# Altium schematic symbol library 隔离变压器驱动.SchLib: 1 symbol
Pins are listed as number, name and electrical type; pins without a type are passive.

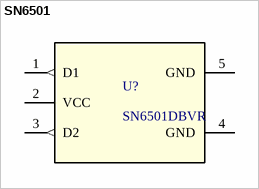
[diagram p0: symbol SN6501]

## SN6501
designator U?, comment SN6501DBVR
SN6501 用于隔离电源的变压器驱动器; Mfr_Name: Texas Instruments; Alternate_PartNumber: SN6501DBVT; CompType: IC; Type: DEV; RefDes: RefDes; Copyright: Copyright (C) 2021 Ultra Librarian. All rights reserved.; Manufacturer_Part_Number: SN6501DBVR; PartNumber: SN6501DBVR; PackageReference: DBV0005A; MountType: SMT; RoHS: Y; Manufacturer: Texas Instruments
footprint DBV0005A_N
footprint DBV0005A_M
footprint DBV0005A_L
pins: 1 D1 (out), 2 VCC (power), 3 D2 (out), 4 GND (power), 5 GND (power)